# Altium footprint library CAP SMD 6.6mm.PcbLib: 3 footprints
Each footprint in its own frame and in the unit in brackets; x right, y up, seen from the top. Pads: shape width x height; smd on the part's side, far side on the other; paste and mask are expansions set on the pad; w line width, h text height; cw(c..) or ccw(c..) is an arc to the next point about the centre after c.
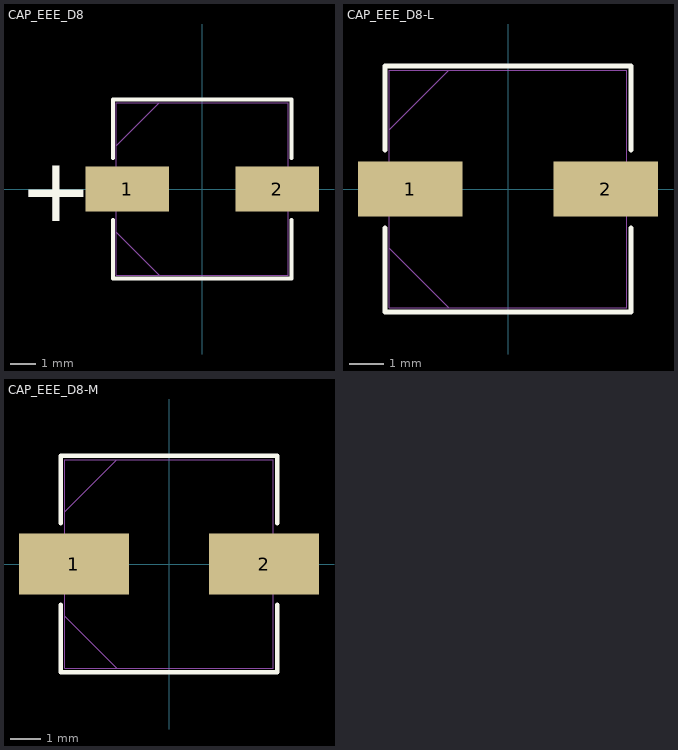
[diagram p0: the footprints below, top view; thin cyan lines are the x and y axes]

## CAP_EEE_D8 [mil]
pads (2):
  rect 130x70 smd: 1(-116.5,0) 2(116.5,0)
Top Layer keep-out:
  region: 
  region: 
  region: 
Top Overlay:
  lines w6: -139,-48.1 -139,-139 139,-139 139,-48.1 ; -139,48.1 -139,139 139,139 139,48.1
  text "+" at -285,-50 h100
Mechanical 1:
  lines w1: -134,-67 -67,-134 ; -134,67 -67,134 ; -134,-134 -134,134 134,134 134,-134 -134,-134

## CAP_EEE_D8-L [mil]
pads (2):
  rect 118x62 smd: 1(-110.5,0) 2(110.5,0)
Top Layer keep-out:
  region: 
  region: 
  region: 
Top Overlay:
  lines w6: -139,-44.1 -139,-139 139,-139 139,-44.1 ; -139,44.1 -139,139 139,139 139,44.1
Mechanical 1:
  lines w1: -134,-67 -67,-134 ; -134,67 -67,134 ; -134,-134 134,-134 134,134 -134,134 -134,-134

## CAP_EEE_D8-M [mil]
pads (2):
  rect 141x78 smd: 1(-122,0) 2(122,0)
Top Layer keep-out:
  region: 
  region: 
  region: 
Top Overlay:
  lines w6: -139,-52.1 -139,-139 139,-139 139,-52.1 ; -139,52.1 -139,139 139,139 139,52.1
Mechanical 1:
  lines w1: -134,-67 -67,-134 ; -134,67 -67,134 ; -134,-134 134,-134 134,134 -134,134 -134,-134